# Altium integrated library ACPL-021L-060E.Library.IntLib: 1 symbol
Pins are listed as number, name and electrical type; pins without a type are passive.

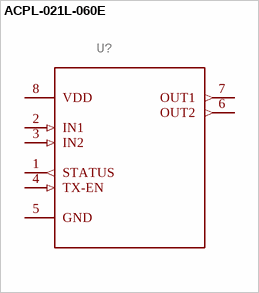
[diagram p0: symbol ACPL-021L-060E]

## ACPL-021L-060E
designator U?
GateName_1: A; SymbolName_1: ACPL-021L-060E; Description: Logic Output Optoisolator 5MBd Push-Pull, Totem Pole 3750Vrms 1 Channel 25kV/µs CMTI 8-SO Tall; MF: Broadcom; LibraryName: ACPL-021L-060E; DeviceSetName: ACPL-021L-060E; Package: SOIC127P600X175-8N; DigiKey_Part_Number: ACPL-021L-060E-ND; SnapEDA_Link: https://www.snapeda.com/parts/ACPL-021L-060E/Broadcom/view-part/?ref=snap; Package: SO-8 Avago; MP: ACPL-021L-060E; Check_prices: https://www.snapeda.com/parts/ACPL-021L-060E/Broadcom/view-part/?ref=eda
footprint SOIC127P600X175-8N
pins: 1 STATUS (out), 2 IN1 (in), 3 IN2 (in), 4 TX-EN (in), 5 GND, 6 OUT2 (out), 7 OUT1 (out), 8 VDD (power)